# Altium schematic symbol library SE.SchLib: 1 symbol
Pins are listed as number, name and electrical type; pins without a type are passive.

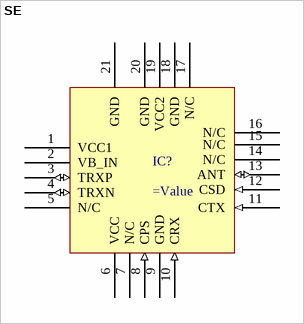
[diagram p0: symbol SE]

## SE
designator IC?
=Description
pins: 1 VCC1 (power), 2 VB_IN (power), 3 TRXP (io), 4 TRXN (io), 5 N/C (hiz), 6 VCC (power), 7 N/C (hiz), 8 CPS (in), 9 GND (power), 10 CRX (in), 11 CTX (in), 12 CSD (in), 13 ANT (io), 14 N/C (hiz), 15 N/C (hiz), 16 N/C (hiz), 17 N/C (hiz), 18 GND (power), 19 VCC2 (power), 20 GND (power), 21 GND (power)